# Altium schematic symbol library yao.SchLib: 7 symbols
Pins are listed as number, name and electrical type; pins without a type are passive.

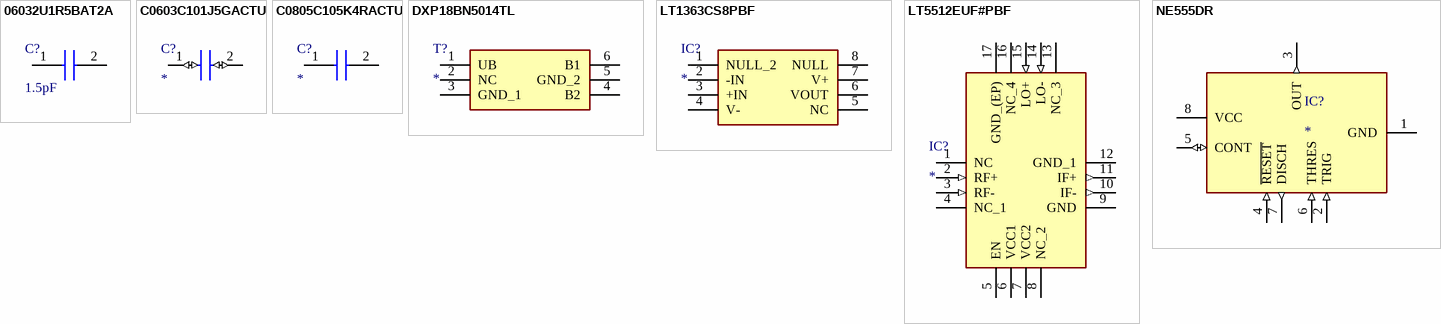
[diagram p0: symbols 06032U1R5BAT2A to NE555DR]

## 06032U1R5BAT2A
designator C?  value 1.5pF  (hidden comment: *)
Capacitor; Manufacturer_Name: AVX; Manufacturer_Part_Number: 06032U1R5BAT2A; Allied_Number: 70473499; Datasheet Link: http://www.mouser.com/catalog/supplier/library/pdf/AVXSurfaceMountCeramic.pdf; Height: 0.9mm; Mouser Part Number: 581-06032U1R5BAT2A; Mouser Price/Stock: http://www.mouser.com/Search/ProductDetail.aspx?qs=HHtk9%2fstK94%2fdhQq%2fiZoHQ%3d%3d; RS Part Number: 6983986; RS Price/Stock: https://uk.rs-online.com/web/p/products/6983986; Allied Price/Stock: https://www.alliedelec.com/avx-06032u1r5bat2a/70473499/
footprint CAPC1608X90N
pins: 1, 2

## C0603C101J5GACTU
designator C?
Capacitor; Manufacturer_Name: Kemet; Manufacturer_Part_Number: C0603C101J5GACTU; Allied_Number: 70096904; Datasheet Link: http://docs-emea.rs-online.com/webdocs/116e/0900766b8116eaf8.pdf; Height: 0.87mm; Mouser Part Number: 80-C0603C101J5G; Mouser Price/Stock: https://www.mouser.com/Search/Refine.aspx?Keyword=80-C0603C101J5G; RS Part Number: 2644523P; RS Price/Stock: http://uk.rs-online.com/web/p/products/2644523P; Allied Price/Stock: https://www.alliedelec.com/kemet-c0603c101j5gactu/70096904/
footprint CAPC1608X87N
pins: 1 (io), 2 (io)

## C0805C105K4RACTU
designator C?
Capacitor; Manufacturer_Name: Kemet; Manufacturer_Part_Number: C0805C105K4RACTU; Datasheet Link: http://www.kemet.com/Lists/ProductCatalog/Attachments/53/KEM_C1002_X7R_SMD.pdf; Height: 1mm; Mouser Part Number: 80-C0805C105K4R; Mouser Price/Stock: https://www.mouser.com/Search/Refine.aspx?Keyword=80-C0805C105K4R; RS Part Number: 4515770P; RS Price/Stock: http://uk.rs-online.com/web/p/products/4515770P
footprint CAPC2012X100N
pins: 1, 2

## DXP18BN5014TL
designator T?
Transformer; Manufacturer_Name: Murata Electronics; Manufacturer_Part_Number: DXP18BN5014TL; Datasheet Link: https://www.murata.com/en-us/products/productdata/8796776071198/EFKA0002.pdf; Height: 0.55mm; Mouser Part Number: 81-DXP18BN5014TL; Mouser Price/Stock: https://www.mouser.com/Search/Refine.aspx?Keyword=81-DXP18BN5014TL; RS Part Number: 8390904P; RS Price/Stock: http://uk.rs-online.com/web/p/products/8390904P
footprint DXP18BN5014TL
pins: 1 UB, 2 NC, 3 GND_1, 4 B2, 5 GND_2, 6 B1

## LT1363CS8PBF
designator IC?
Integrated Circuit; Manufacturer_Name: Linear Technology; Manufacturer_Part_Number: LT1363CS8PBF
footprint SOIC127P600X175-8N
pins: 1 NULL_2, 2 -IN, 3 +IN, 4 V-, 5 NC, 6 VOUT, 7 V+, 8 NULL

## LT5512EUF#PBF
designator IC?
Integrated Circuit; Manufacturer_Name: Linear Technology; Manufacturer_Part_Number: LT5512EUF#PBF; Datasheet Link: http://cds.linear.com/docs/en/datasheet/5512fa.pdf; Height: 0.8mm; RS Part Number: 5060861P; RS Price/Stock: http://uk.rs-online.com/web/p/products/5060861P
footprint QFN65P400X400X80-17N-D
pins: 1 NC, 2 RF+ (in), 3 RF- (in), 4 NC_1, 5 EN, 6 VCC1 (power), 7 VCC2 (power), 8 NC_2, 9 GND (power), 10 IF- (out), 11 IF+ (out), 12 GND_1 (power), 13 NC_3, 14 LO- (in), 15 LO+ (in), 16 NC_4, 17 GND_(EP) (power)

## NE555DR
designator IC?
Integrated Circuit; Manufacturer_Name: Texas Instruments; Manufacturer_Part_Number: NE555DR; Datasheet Link: http://www.ti.com/lit/ds/symlink/ne555.pdf; Height: 1.75mm; Mouser Part Number: 595-NE555DR; Mouser Price/Stock: https://www.mouser.com/Search/Refine.aspx?Keyword=595-NE555DR; RS Part Number: 1218414; RS Price/Stock: http://uk.rs-online.com/web/p/products/1218414
footprint SOIC127P600X175-8N
pins: 1 GND (power), 2 TRIG (in), 3 OUT (out), 4 ~{RESET} (in), 5 CONT (io), 6 THRES (in), 7 DISCH (out), 8 VCC (power)